# Altium schematic symbol library IR-LED-RX.SchLib: 1 symbol
Pins are listed as number, name and electrical type; pins without a type are passive.

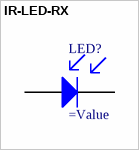
[diagram p0: symbol IR-LED-RX]

## IR-LED-RX
designator LED?
=Description
pins: 1 A, 2 K